# EAGLE library part AVRISP-6 (library AVR)
2x3 Pin Header, 2.54mm pitch
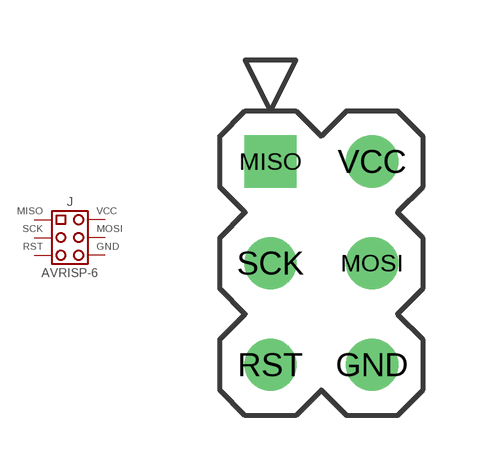
[diagram p0: symbol with the pads of AVRISP-6; footprint AVRISP-6]

Designator prefix J

## AVRISP-6_2X3_HEADER  [AVRISP-6]
GND  6
MISO  1
MOSI  4
RST  5
SCK  3
VCC  2

## Footprint AVRISP-6 (pad centres in mm)
drill 0.8: GND 1.27,-2.54; MOSI 1.27,0; RST -1.27,-2.54; SCK -1.27,0; VCC 1.27,2.54
drill 0.8 square: MISO -1.27,2.54